# Altium footprint library e-switch-slide.PcbLib: 1 footprints
Each footprint in its own frame and in the unit in brackets; x right, y up, seen from the top. Pads: shape width x height; smd on the part's side, far side on the other; paste and mask are expansions set on the pad; w line width, h text height; cw(c..) or ccw(c..) is an arc to the next point about the centre after c.
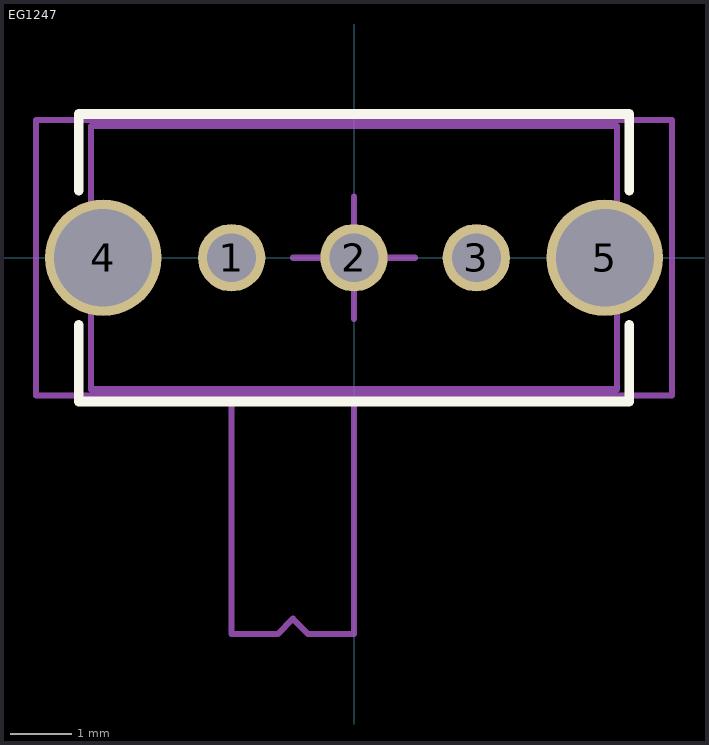
[diagram p0: the footprint, top view; thin cyan lines are the x and y axes]

## EG1247 [mm] "Tact Swithc SMT - Right Angle"
height 4.7
pads (5):
  round 1.1 hole 0.8: 1(-2,0) 2(0,0) 3(2,0)
  round 1.9 hole 1.6: 4(-4.1,0) 5(4.1,0)
Top Overlay:
  lines w0.16: -4.5,-1.1 -4.5,-2.35 4.5,-2.35 4.5,-1.1 ; -4.5,1.1 -4.5,2.35 4.5,2.35 4.5,1.1
Mechanical 13:
  lines w0.1: -2,-2.2 -2,-6.15 -1.25,-6.15 -1,-5.9 -0.75,-6.15 0,-6.15 0,-2.2 ; -1,0 1,0 ; 0,-1 0,1 ; -4.3,-2.15 4.3,-2.15 4.3,2.15 -4.3,2.15 -4.3,-2.15
Mechanical 15:
  lines w0.1: -5.2,-2.25 -5.2,2.25 5.2,2.25 5.2,-2.25 -5.2,-2.25
  text ".Designator" at -2.45,0.05 h0.5
3D body: height 4.7, standoff -2.8, extent -4.3,-6.125 4.3,2.175